# Altium footprint library FPGAlib.PcbLib: 18 footprints (part 1 of 2)
Each footprint in its own frame and in the unit in brackets; x right, y up, seen from the top. Pads: shape width x height; smd on the part's side, far side on the other; paste and mask are expansions set on the pad; w line width, h text height; cw(c..) or ccw(c..) is an arc to the next point about the centre after c.
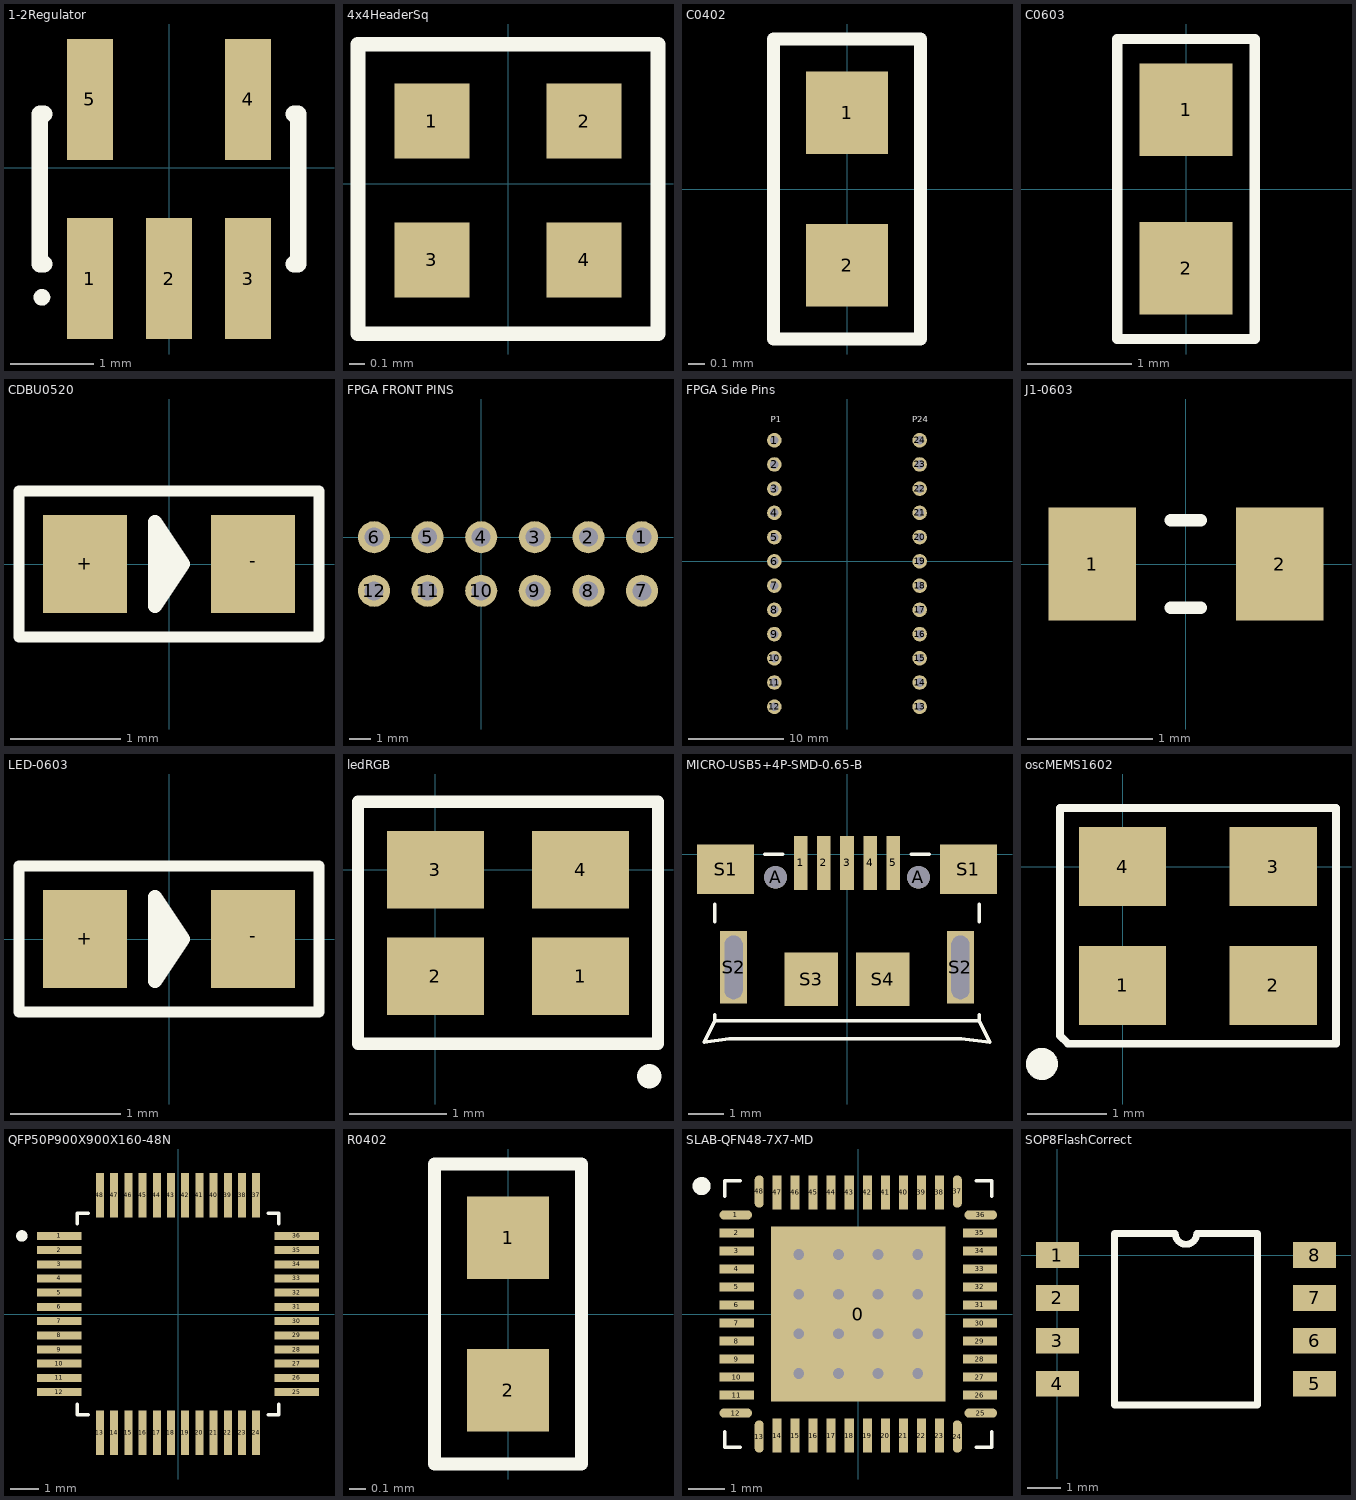
[diagram p0: the footprints below, top view; thin cyan lines are the x and y axes]

## 1-2Regulator [mm]
pads (5):
  rect 0.55x1.45 smd: 1(-0.95,-1.329) 2(0,-1.329) 3(0.95,-1.329) 4(0.95,0.821) 5(-0.95,0.821)
Top Overlay:
  circle w0.1: c-1.525,-1.554 r0.05
  lines w0.2: -1.5,-1.154 -1.55,-1.154 -1.55,0.646 -1.5,0.646 ; 1.5,-1.154 1.55,-1.154 1.55,0.646 1.5,0.646
3D body "SW3DPS-SOT-23-5-DEFAULT.STEP": height 1.08, standoff -0.02, extent -1.5,-1.504 1.5,0.996

## 4x4HeaderSq [mil]
pads (4):
  rect 19.69x19.69 smd: 1(-20,16.42) 2(20,16.42) 3(-20,-20) 4(20,-20)
Top Overlay:
  lines w3.94: -39.37,-39.37 -39.37,36.61 39.37,36.61 39.37,-39.37 -39.37,-39.37

## C0402 [mm]
pads (2):
  rect 0.5x0.5 smd: 1(0,0.463) 2(0,-0.463)
Top Overlay:
  lines w0.08: -0.445,-0.91 -0.445,0.91 0.445,0.91 0.445,-0.91 -0.445,-0.91
3D body "User Library-SMD CAPACITOR0402.STEP": height 0.48, standoff -0.02, extent -0.25,-0.5 0.25,0.5

## C0603 [mil]
pads (2):
  rect 35x35 smd: 1(0,30) 2(0,-30)
Top Overlay:
  lines w3.94: -25.98,-56.69 25.98,-56.69 25.98,56.69 -25.98,56.69 -25.98,-56.69
3D body "User Library-SMD CAPACITOR0603.STEP": height 30.71, standoff -0.79, extent -15.75,-31.49 15.74,31.51

## CDBU0520 [mil]
pads (2):
  rect 30x35 smd: +(-30,0) -(30,0)
Top Overlay:
  lines w3.94: -53.54,-25.98 -53.54,25.98 53.54,25.98 53.54,-25.98 -53.54,-25.98
  lines w5: -2.5,-10 -2.5,10 ; 0,-7.5 0,7.5 ; 0,-7.5 5,0 0,7.5 ; 0,-7.5 -5,-15 -5,15 0,7.5
3D body "User Library-SOD-523F.STEP": height 27.56, standoff 0, extent -31.5,-15.7 31.49,15.7

## FPGA FRONT PINS [mil]
pads (12):
  round 60 hole 35.43: 1(300,0) 2(200,0) 3(100,0) 4(0,0) 5(-100,0) 6(-200,0) 7(300,-100) 8(200,-100) 9(100,-100) 10(0,-100) 11(-100,-100) 12(-200,-100)

## FPGA Side Pins [mil]
pads (24):
  round 60 hole 35.43: 1(-300,500) 2(-300,400) 3(-300,300) 4(-300,200) 5(-300,100) 6(-300,0) 7(-300,-100) 8(-300,-200) 9(-300,-300) 10(-300,-400) 11(-300,-500) 12(-300,-600) 13(300,-600) 14(300,-500) 15(300,-400) 16(300,-300) 17(300,-200) 18(300,-100) 19(300,0) 20(300,100) 21(300,200) 22(300,300) 23(300,400) 24(300,500)
Top Overlay:
  text "P1" at -315,565 h43.31
  text "P24" at 270,565 h43.31
3D body "User Library-Pin Header Strip.STEP": height 129.25, standoff -350.75, extent -357.48,350.01 -242.52,550.01
3D body "User Library-Pin Header Strip.STEP": height 129.25, standoff -350.75, extent -357.48,150.01 -242.52,350.01
3D body "User Library-Pin Header Strip.STEP": height 129.25, standoff -350.75, extent -357.48,-50 -242.52,150
3D body "User Library-Pin Header Strip.STEP": height 129.25, standoff -350.75, extent -357.48,-249.99 -242.52,-49.99
3D body "User Library-Pin Header Strip.STEP": height 129.25, standoff -350.75, extent -357.48,-450 -242.52,-250
3D body "User Library-Pin Header Strip.STEP": height 129.25, standoff -350.75, extent -357.48,-649.99 -242.52,-449.99
3D body "User Library-Pin Header Strip.STEP": height 129.25, standoff -350.75, extent 242.52,-649.99 357.48,-449.99
3D body "User Library-Pin Header Strip.STEP": height 129.25, standoff -350.75, extent 242.52,-450 357.48,-250
3D body "User Library-Pin Header Strip.STEP": height 129.25, standoff -350.75, extent 242.52,-249.99 357.48,-49.99
3D body "User Library-Pin Header Strip.STEP": height 129.25, standoff -350.75, extent 242.52,-49.99 357.48,150.01
3D body "User Library-Pin Header Strip.STEP": height 129.25, standoff -350.75, extent 242.52,150 357.48,350
3D body "User Library-Pin Header Strip.STEP": height 129.25, standoff -350.75, extent 242.52,350 357.48,550

## J1-0603 [mm] "Chip Resistor, Body 1.6x0.8mm, IPC High Density"
height 0.9
pads (2):
  rect 0.7x0.9 smd: 1(-0.75,0) 2(0.75,0)
Top Overlay:
  lines w0.1: -0.12,-0.35 0.12,-0.35 ; -0.12,0.35 0.12,0.35
3D body "45631.stp": height 0.78, standoff -0.02, extent -0.787,-0.394 0.813,0.406

## LED-0603 [mil]
pads (2):
  rect 30x35 smd: +(-30,0) -(30,0)
Top Overlay:
  lines w3.94: -53.54,-25.98 -53.54,25.98 53.54,25.98 53.54,-25.98 -53.54,-25.98
  lines w5: -2.5,-10 -2.5,10 ; 0,-7.5 0,7.5 ; 0,-7.5 5,0 0,7.5 ; 0,-7.5 -5,-15 -5,15 0,7.5
3D body "alsrobot-LED0603(G).STEP": height 23.62, standoff 0, extent -31.89,-15.74 31.9,15.75

## ledRGB [mm]
pads (4):
  rect 1x0.8 smd: 1(1.5,-1.1) 3(0,0) 4(1.5,0)
  rect 1x0.8 smd paste+0: 2(0,-1.1)
Top Overlay:
  lines w0.127: -0.8,-1.8 2.3,-1.8 2.3,0.7 -0.8,0.7 -0.8,-1.8
  lines w0.254: 2.21,-2.134 2.21,-2.134
3D body "SW3dPS-Osram_Led_PLCC4-1.STEP": height 1.95, standoff 0, extent -1.013,-1.959 2.487,0.841

## MICRO-USB5+4P-SMD-0.65-B [mil]
pads (13):
  rect 15x60 smd: 1(-51.18,-9.84) 2(-25.59,-9.84) 3(0,-9.84) 4(25.59,-9.84) 5(51.18,-9.84)
  round 25 hole 25: A(-78.74,-25.59) A(78.74,-25.59)
  rect 62.99x55 smd: S1(-133.86,-16.81) S1(133.86,-16.81)
  rect 30x80 hole 20 slot 70 at 90 deg: S2(-125,-125) S2(125,-125)
  rect 59.06x59.06 smd: S3(-39.37,-137.8) S4(39.37,-137.8)
Top Overlay:
  lines w3.94: -145.67,-184 145.67,-184 ; -145.67,-183.85 -157.48,-207.47 -129.92,-203.54 125.98,-203.54 157.48,-207.47 145.67,-183.85 ; -145.67,-183.07 -145.67,-177.17 ; -145.67,-74.8 -145.67,-55.12 ; -90.55,0 -70.87,0 ; 70.87,0 90.55,0 ; 145.67,-183.07 145.67,-177.17 ; 145.67,-74.8 145.67,-55.12
3D body "uj2-mibh2-4-smt.stp": height 106.69, standoff -27.56, extent -147.64,-221.46 147.64,-13

## oscMEMS1602 [mm]
pads (4):
  rect 1.1x1 smd: 1(0,-1.5) 2(1.9,-1.5) 3(1.9,0) 4(0,0)
Top Overlay:
  circle w0.254: c-1.016,-2.489 r0.075
  lines w0.1: -0.787,-2.134 -0.686,-2.235 2.692,-2.235 2.692,0.737 -0.787,0.737 -0.787,-2.134
3D body "User Library-Oscillator2520-4pol.STEP": height 0.86, standoff 0, extent -0.31,-1.736 2.19,0.264

## QFP50P900X900X160-48N [mm]
pads (48):
  rect 1.56x0.28 smd: 1(-4.18,2.75) 2(-4.18,2.25) 3(-4.18,1.75) 4(-4.18,1.25) 5(-4.18,0.75) 6(-4.18,0.25) 7(-4.18,-0.25) 8(-4.18,-0.75) 9(-4.18,-1.25) 10(-4.18,-1.75) 11(-4.18,-2.25) 12(-4.18,-2.75) 25(4.18,-2.75) 26(4.18,-2.25) 27(4.18,-1.75) 28(4.18,-1.25) 29(4.18,-0.75) 30(4.18,-0.25) 31(4.18,0.25) 32(4.18,0.75) 33(4.18,1.25) 34(4.18,1.75) 35(4.18,2.25) 36(4.18,2.75)
  rect 0.28x1.56 smd: 13(-2.75,-4.18) 14(-2.25,-4.18) 15(-1.75,-4.18) 16(-1.25,-4.18) 17(-0.75,-4.18) 18(-0.25,-4.18) 19(0.25,-4.18) 20(0.75,-4.18) 21(1.25,-4.18) 22(1.75,-4.18) 23(2.25,-4.18) 24(2.75,-4.18) 37(2.75,4.18) 38(2.25,4.18) 39(1.75,4.18) 40(1.25,4.18) 41(0.75,4.18) 42(0.25,4.18) 43(-0.25,4.18) 44(-0.75,4.18) 45(-1.25,4.18) 46(-1.75,4.18) 47(-2.25,4.18) 48(-2.75,4.18)
Top Overlay:
  circle w0.2: c-5.5,2.75 r0.1
  lines w0.127: -3.55,-3.17 -3.55,-3.55 -3.17,-3.55 ; -3.55,3.17 -3.55,3.55 -3.17,3.55 ; 3.17,-3.55 3.55,-3.55 3.55,-3.17 ; 3.17,3.55 3.55,3.55 3.55,3.17
3D body "SW3dPS-Quad50M48.STEP": height 1.56, standoff 0, extent -4.496,-4.479 4.504,4.521

## R0402 [mm]
pads (2):
  rect 0.5x0.5 smd: 1(0,0.463) 2(0,-0.463)
Top Overlay:
  lines w0.08: -0.445,-0.91 0.445,-0.91 0.445,0.91 -0.445,0.91 -0.445,-0.91
3D body "rnd_1550402wgf470ktce.stp": height 0.49, standoff -0.01, extent -0.172,-0.5 0.178,0.5

## SLAB-QFN48-7X7-MD [mm] "QFN, 48-Leads, Body 7.00x7.00mm, Pitch 0.50mm, Thermal Pad 4.70x4.70mm, IPC Medium Density"
height 0.9
pads (49):
  rect 4.85x4.85 smd: 0(0,0)
  oval 0.9x0.25 smd: 1(-3.4,2.75) 12(-3.4,-2.75) 25(3.4,-2.75) 36(3.4,2.75)
  rect 0.95x0.25 smd: 2(-3.375,2.25) 3(-3.375,1.75) 4(-3.375,1.25) 5(-3.375,0.75) 6(-3.375,0.25) 7(-3.375,-0.25) 8(-3.375,-0.75) 9(-3.375,-1.25) 10(-3.375,-1.75) 11(-3.375,-2.25) 26(3.375,-2.25) 27(3.375,-1.75) 28(3.375,-1.25) 29(3.375,-0.75) 30(3.375,-0.25) 31(3.375,0.25) 32(3.375,0.75) 33(3.375,1.25) 34(3.375,1.75) 35(3.375,2.25)
  oval 0.25x0.9 smd: 13(-2.75,-3.4) 24(2.75,-3.4) 37(2.75,3.4) 48(-2.75,3.4)
  rect 0.25x0.95 smd: 14(-2.25,-3.375) 15(-1.75,-3.375) 16(-1.25,-3.375) 17(-0.75,-3.375) 18(-0.25,-3.375) 19(0.25,-3.375) 20(0.75,-3.375) 21(1.25,-3.375) 22(1.75,-3.375) 23(2.25,-3.375) 38(2.25,3.375) 39(1.75,3.375) 40(1.25,3.375) 41(0.75,3.375) 42(0.25,3.375) 43(-0.25,3.375) 44(-0.75,3.375) 45(-1.25,3.375) 46(-1.75,3.375) 47(-2.25,3.375)
via -1.65,1.65 diameter 0.6 hole 0.3
via -0.55,1.65 diameter 0.6 hole 0.3
via 0.55,1.65 diameter 0.6 hole 0.3
via 1.65,1.65 diameter 0.6 hole 0.3
via -1.65,0.55 diameter 0.6 hole 0.3
via -0.55,0.55 diameter 0.6 hole 0.3
via 0.55,0.55 diameter 0.6 hole 0.3
via 1.65,0.55 diameter 0.6 hole 0.3
via -1.65,-0.55 diameter 0.6 hole 0.3
via -0.55,-0.55 diameter 0.6 hole 0.3
via 0.55,-0.55 diameter 0.6 hole 0.3
via 1.65,-0.55 diameter 0.6 hole 0.3
via -1.65,-1.65 diameter 0.6 hole 0.3
via -0.55,-1.65 diameter 0.6 hole 0.3
via 0.55,-1.65 diameter 0.6 hole 0.3
via 1.65,-1.65 diameter 0.6 hole 0.3
Top Overlay:
  circle w0.25: c-4.35,3.55 r0.125
  lines w0.1: -3.7,-3.275 -3.7,-3.7 -3.275,-3.7 ; -3.7,3.275 -3.7,3.7 -3.275,3.7 ; 3.275,-3.7 3.7,-3.7 3.7,-3.275 ; 3.275,3.7 3.7,3.7 3.7,3.275
3D body "ALSRobot-QFN48 7x7.STEP": height 0.78, standoff -0.02, extent -3.495,-3.485 3.525,3.535

## SOP8FlashCorrect [mil]
pads (8):
  rect 50x30 smd: 1(0,0) 2(0,-50) 3(0,-100) 4(0,-150) 5(299.84,-150) 6(299.84,-100) 7(299.84,-50) 8(299.84,0)
Top Overlay:
  lines w7.87: 66.65,-175 233.19,-175 233.19,25 162.42,25 cw(c149.92,25) 137.42,25 66.65,25 66.65,-175
3D body "SW3dPS-SOIC8_(ATTINY12).STEP": height 90.55, standoff -0.78, extent -16.2,-180.9 314.21,30.91